# Altium footprint library DIP1016W75P254L4018H725Q16N.PcbLib: 1 footprints
Each footprint in its own frame and in the unit in brackets; x right, y up, seen from the top. Pads: shape width x height; smd on the part's side, far side on the other; paste and mask are expansions set on the pad; w line width, h text height; cw(c..) or ccw(c..) is an arc to the next point about the centre after c.
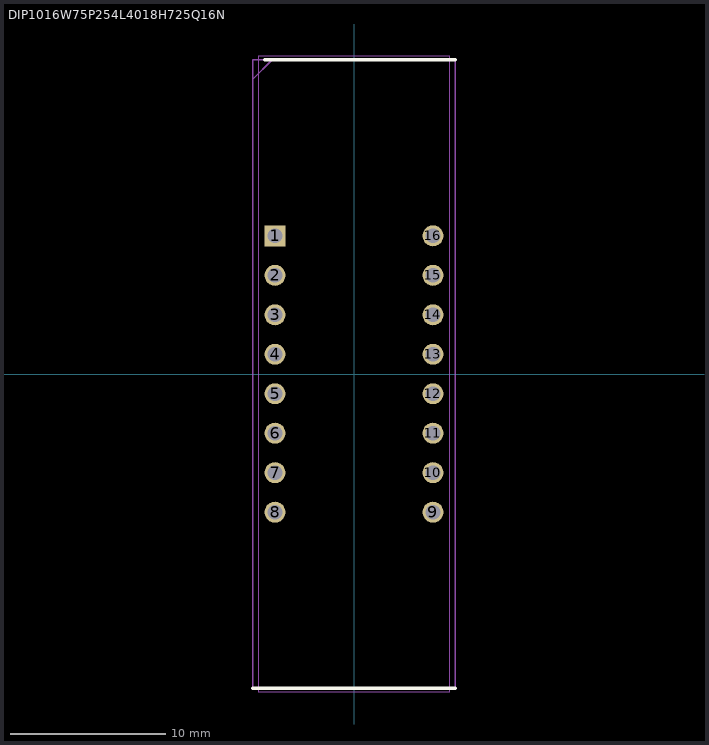
[diagram p0: the footprint, top view; thin cyan lines are the x and y axes]

## DIP1016W75P254L4018H725Q16N [mm]
pads (16):
  rect 1.35x1.35 / inner round 1.35 / far side rect 1.35x1.35 hole 0.95: 1(-5.08,8.89)
  round 1.35 hole 0.95: 2(-5.08,6.35) 3(-5.08,3.81) 4(-5.08,1.27) 5(-5.08,-1.27) 6(-5.08,-3.81) 7(-5.08,-6.35) 8(-5.08,-8.89) 9(5.08,-8.89) 10(5.08,-6.35) 11(5.08,-3.81) 12(5.08,-1.27) 13(5.08,1.27) 14(5.08,3.81) 15(5.08,6.35) 16(5.08,8.89)
Top Overlay:
  lines w0.2: -6.525,-20.215 6.525,-20.215 ; -5.755,20.215 6.525,20.215
Mechanical 15:
  lines w0.1: -6.525,18.945 -5.255,20.215 ; -6.525,-20.215 6.525,-20.215 6.525,20.215 -6.525,20.215 -6.525,-20.215
Mechanical 20:
  lines w0.05: -6.13,-20.465 6.13,-20.465 6.13,20.465 -6.13,20.465 -6.13,-20.465